# Altium schematic symbol library 43650-0204.SchLib: 1 symbol
Pins are listed as number, name and electrical type; pins without a type are passive.

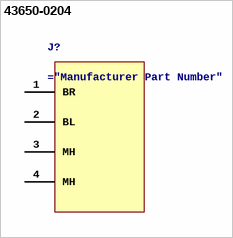
[diagram p0: symbol 43650-0204]

## 43650-0204
designator J?
Rectangular Power Connector, 2 Contact(s), Male, Solder Terminal, Receptacle
pins: 1 BR, 2 BL, 3 MH, 4 MH